# Altium footprint library Display-NHD-C12832.PcbLib: 1 footprints
Each footprint in its own frame and in the unit in brackets; x right, y up, seen from the top. Pads: shape width x height; smd on the part's side, far side on the other; paste and mask are expansions set on the pad; w line width, h text height; cw(c..) or ccw(c..) is an arc to the next point about the centre after c.
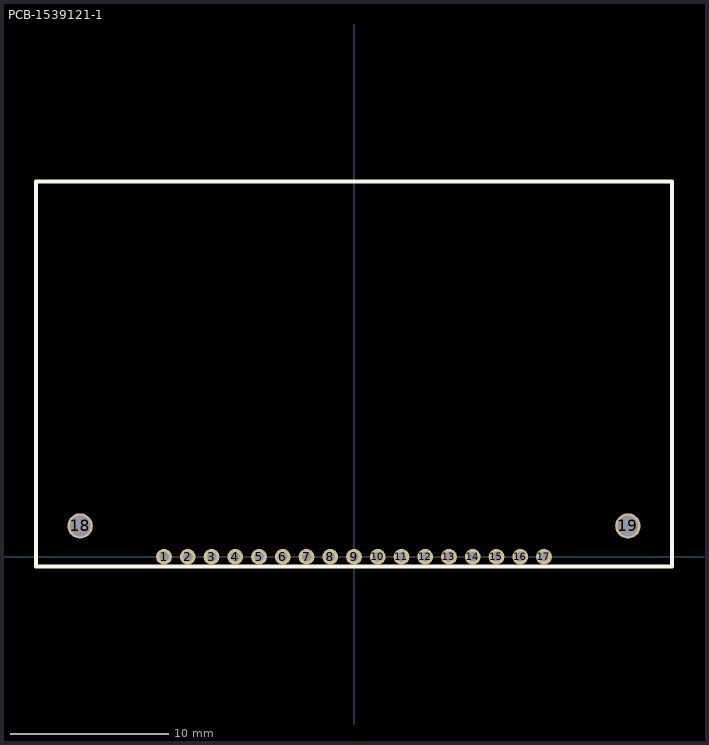
[diagram p0: the footprint, top view; thin cyan lines are the x and y axes]

## PCB-1539121-1 [mm]
pads (19):
  round 1 hole 0.6: 1(-12,0) 2(-10.5,0) 3(-9,0) 4(-7.5,0) 5(-6,0) 6(-4.5,0) 7(-3,0) 8(-1.5,0) 9(0,0) 10(1.5,0) 11(3,0) 12(4.5,0) 13(6,0) 14(7.5,0) 15(9,0) 16(10.5,0) 17(12,0)
  round 1.6 hole 1.3: 18(-17.3,1.95) 19(17.3,1.95)
Top Overlay:
  lines w0.254: -20.1,-0.6 -20.1,23.7 20.1,23.7 20.1,-0.6 -20.1,-0.6
3D body: height 4.9, standoff 0.9, extent -20.1,-0.6 20.1,23.7